# Altium footprint library DIMNodeCN25_08_2012.PcbLib: 46 footprints (part 1 of 3)
Each footprint in its own frame and in the unit in brackets; x right, y up, seen from the top. Pads: shape width x height; smd on the part's side, far side on the other; paste and mask are expansions set on the pad; w line width, h text height; cw(c..) or ccw(c..) is an arc to the next point about the centre after c.
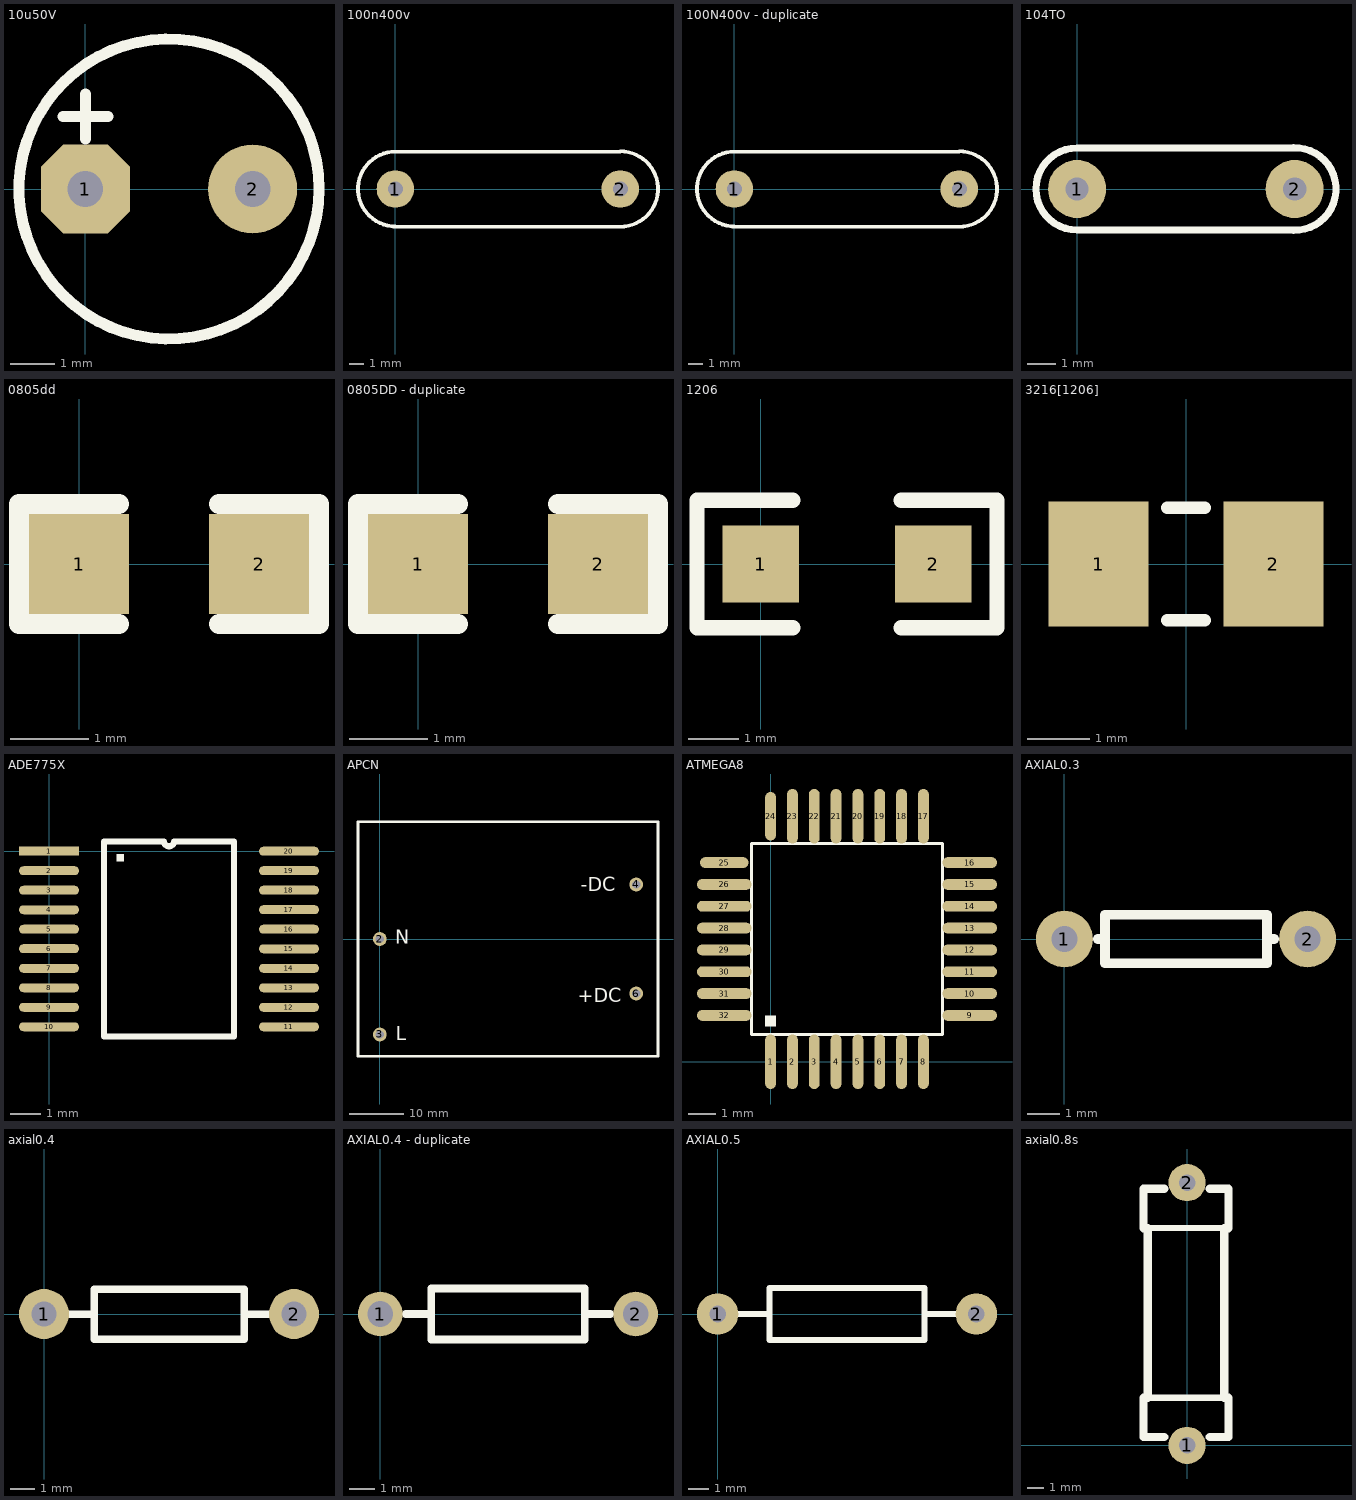
[diagram p0: the footprints below, top view; thin cyan lines are the x and y axes]

## 10u50V [mil]
pads (2):
  oct 80x80 hole 32: 1(0,0)
  round 80 hole 32: 2(150,0)
Top Overlay:
  circle w10: c75,0 r134.54
  lines w10: -20,65 20,65 ; 0,45 0,85

## 100n400v [mil]
pads (2):
  round 100 hole 40: 1(0,0) 2(600,0)
Top Overlay:
  lines w10: -5,-100 -4.38,-100.62 600,-100.62 ccw(c600,0) 600,100.62 599,99.62 0,99.62 ccw(c0,0) 0,-99.62

## 100N400v - duplicate [mil]
pads (2):
  round 100 hole 40: 1(0,0) 2(600,0)
Top Overlay:
  lines w10: -5,-100 -4.38,-100.62 600,-100.62 ccw(c600,0) 600,100.62 599,99.62 0,99.62 ccw(c0,0) 0,-99.62

## 104TO [mil]
pads (2):
  round 80 hole 32: 1(0,0) 2(300,0)
Top Overlay:
  lines w10: 298.42,-56.99 ccw(c300,0) 298.42,56.99 ; 298.43,-56.57 0,-56.57 cw(c0,0) 0,56.57 298.43,56.57

## 0805dd [mil]
pads (2):
  rect 50x50 smd: 1(0,0) 2(90,0)
Top Overlay:
  lines w10: 20,-30 -30,-30 -30,30 20,30 ; 70,-30 120,-30 120,30 70,30

## 0805DD - duplicate [mil]
pads (2):
  rect 50x50 smd: 1(0,0) 2(90,0)
Top Overlay:
  lines w10: 20,-30 -30,-30 -30,30 20,30 ; 70,-30 120,-30 120,30 70,30

## 1206 [mil]
pads (2):
  rect 60x60 smd: 1(0,0) 2(135,0)
Top Overlay:
  lines w12: 25,-50 -50,-50 -50,50 25,50 ; 110,-50 185,-50 185,50 110,50

## 3216[1206] [mm] "Metal Electrode Face (MELF) Resistor; Body 3.2 x 1.8 mm (LxDia)"
height 1.85
pads (2):
  rect 1.6x2 smd: 1(-1.4,0) 2(1.4,0)
Top Overlay:
  lines w0.2: -0.3,-0.9 0.3,-0.9 ; -0.3,0.9 0.3,0.9

## ADE775X [mm]
pads (20):
  rect 2x0.3 smd: 1(0,0)
  oval 2x0.3 smd: 2(0,-0.65) 3(0,-1.3) 4(0,-1.95) 5(0,-2.6) 6(0,-3.25) 7(0,-3.9) 8(0,-4.55) 9(0,-5.2) 10(0,-5.85) 11(8,-5.85) 12(8,-5.2) 13(8,-4.55) 14(8,-3.9) 15(8,-3.25) 16(8,-2.6) 17(8,-1.95) 18(8,-1.3) 19(8,-0.65) 20(8,0)
Top Overlay:
  rectangle: 2.25,-0.35 2.5,-0.1
  lines w0.2: 1.835,-6.175 1.835,0.325 3.837,0.325 ccw(c4,0.325) 4.162,0.325 6.165,0.325 6.165,-6.175 1.835,-6.175

## APCN [mm] "AC - DC convert module 15W"
pads (4):
  round 2.54 hole 1.524: 2(0,0) 3(0,-17.5) 4(47,10) 6(47,-10)
Top Overlay:
  lines w0.508: 50.927,-21.5 -4,-21.5 -4,21.5 51,21.5 51,-21.5
  text "+DC" at 36.322,-11.557 h2.54
  text "-DC" at 36.83,8.763 h2.54
  text "L" at 2.921,-18.542 h2.54
  text "N" at 2.794,-0.889 h2.54

## ATMEGA8 [mm]
pads (32):
  oval 0.4x2 smd: 1(0,0) 2(0.8,0) 3(1.6,0) 4(2.4,0) 5(3.2,0) 6(4,0) 7(4.8,0) 8(5.6,0) 17(5.6,9) 18(4.8,9) 19(4,9) 20(3.2,9) 21(2.4,9) 22(1.6,9) 23(0.8,9)
  oval 2x0.4 smd: 9(7.3,1.7) 10(7.3,2.5) 11(7.3,3.3) 12(7.3,4.1) 13(7.3,4.9) 14(7.3,5.7) 15(7.3,6.5) 16(7.3,7.3) 26(-1.7,6.5) 27(-1.7,5.7) 28(-1.7,4.9) 29(-1.7,4.1) 30(-1.7,3.3) 31(-1.7,2.5) 32(-1.7,1.7)
  oval 0.4x1.778 smd: 24(0,9)
  oval 1.778x0.4 smd: 25(-1.7,7.3)
Top Overlay:
  rectangle: -0.2,1.3 0.2,1.7
  lines w0.1: -0.7,1 -0.7,1.7 -0.7,7.3 -0.7,8 0,8 5.6,8 6.3,8 6.3,7.3 6.3,1.7 6.3,1 5.6,1 0,1 -0.7,1

## AXIAL0.3 [mil]
pads (2):
  round 70 hole 32: 1(0,0) 2(300,0)
Top Overlay:
  lines w12: 41,0 50,0 ; 259,0 250,0 ; 250,0 250,30 50,30 50,-30 250,-30 250,0

## axial0.4 [mil]
pads (2):
  round 80 hole 40: 1(0,0) 2(400,0)
Top Overlay:
  lines w12: 40,0 80,0 ; 320,0 360,0 ; 80,-40 80,40 320,40 320,-40 80,-40

## AXIAL0.4 - duplicate [mil]
pads (2):
  round 70 hole 40: 1(0,0) 2(400,0)
Top Overlay:
  lines w12: 40,0 80,0 ; 320,0 360,0 ; 80,-40 320,-40 320,40 80,40 80,-40

## AXIAL0.5 [mil]
pads (2):
  round 80 hole 32: 1(0,0) 2(500,0)
Top Overlay:
  lines w12: 40,0 100,0 ; 400,0 460,0 ; 100,-50 100,50 400,50 400,-50 100,-50

## axial0.8s [mil]
pads (2):
  round 90 hole 40: 1(0,0) 2(0,635)
Top Overlay:
  lines w15: -95,115 90,115 ; -95,525 90,525
  lines w20: -55,20 -105,20 -105,115 -95,115 -95,525 -105,525 -105,620 -55,620 ; 55,20 100,20 100,115 90,115 90,525 100,525 100,620 55,620